# Altium schematic symbol library SCH - POWER - SWITCHMODE - TI TPS51225_RUK_20.SchLib: 1 symbol
Pins are listed as number, name and electrical type; pins without a type are passive.

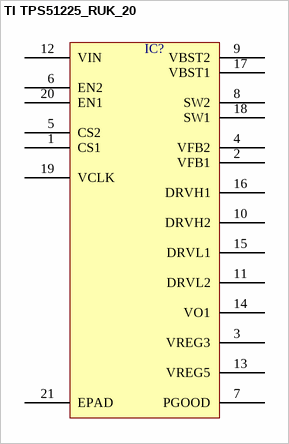
[diagram p0: symbol TI TPS51225_RUK_20]

## TI TPS51225_RUK_20
designator IC?  (value not drawn)
pins: 1 CS1, 2 VFB1, 3 VREG3, 4 VFB2, 5 CS2, 6 EN2, 7 PGOOD, 8 SW2, 9 VBST2, 10 DRVH2, 11 DRVL2, 12 VIN, 13 VREG5, 14 VO1, 15 DRVL1, 16 DRVH1, 17 VBST1, 18 SW1, 19 VCLK, 20 EN1, 21 EPAD